# Altium integrated library LQW15AN9N1H00D.IntLib: 1 symbol
Pins are listed as number, name and electrical type; pins without a type are passive.

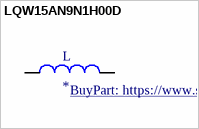
[diagram p0: symbol LQW15AN9N1H00D]

## LQW15AN9N1H00D
designator L
Inductor with Inductance: 9.1nH Tol. +/-3%, Package: 0402 (1005); MF: Murata; MP: LQW15AN9N1H00D; Mouser-Purchase-URL: https://snapeda.com/shop?store=Mouser&id=1510094; SnapEDA_Link: https://www.snapeda.com/parts/LQW15AN9N1H00D/Murata%20Electronics%20North%20America/view-part/1510094/?ref=snap; Availability: Good; DigiKey-Purchase-URL: https://snapeda.com/shop?store=DigiKey&id=1510094; Package: 1006 Murata; Price: None; Value: *; BuyPart: https://www.snapeda.com/parts/LQW15AN9N1H00D/Murata%20Electronics%20North%20America/view-part/1510094/?ref=eda
footprint INDC1006X60N
pins: 1, 2